# Altium schematic symbol library AD8021.SchLib: 1 symbol
Pins are listed as number, name and electrical type; pins without a type are passive.

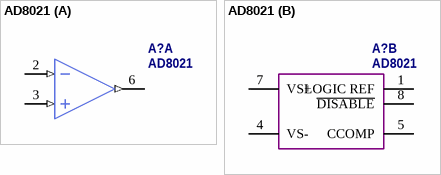
[diagram p0: symbol AD8021]

## AD8021
designator A?
part A pins: 2 IN- (in), 3 IN+ (in), 6 OUT (out)
part B pins: 1 LOGIC REF, 4 VS- (power), 5 CCOMP (power), 7 VS+, 8 ~{DISABLE}